# EAGLE library part SBDBT (library 12_module)
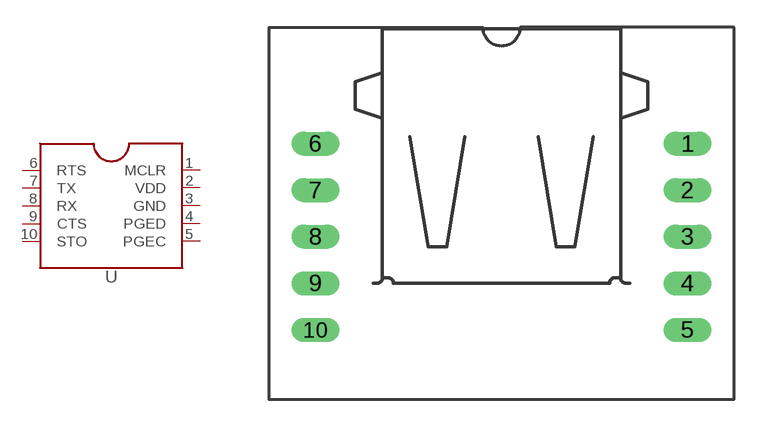
[diagram p1: symbol with the pads of DIL10; footprint DIL10]

Designator prefix -

## SBDBT  [DIL10]
1  MCLR  pas
2  VDD  pas
3  GND  pas
4  PGED  pas
5  PGEC  pas
6  RTS  pas
7  TX  pas
8  RX  pas
9  CTS  pas
10  STO  pas

## Footprint DIL10 (pad centres in mm)
drill 0.813 long: 1 10.16,5.08; 2 10.16,2.54; 3 10.16,0; 4 10.16,-2.54; 5 10.16,-5.08; 6 -10.16,5.08; 7 -10.16,2.54; 8 -10.16,0; 9 -10.16,-2.54; 10 -10.16,-5.08